# EAGLE library part SJA1000 (library andereBauteile)
BASIC-CAN 2.0a Controller (former 82C200) Stand-alone CAN controller
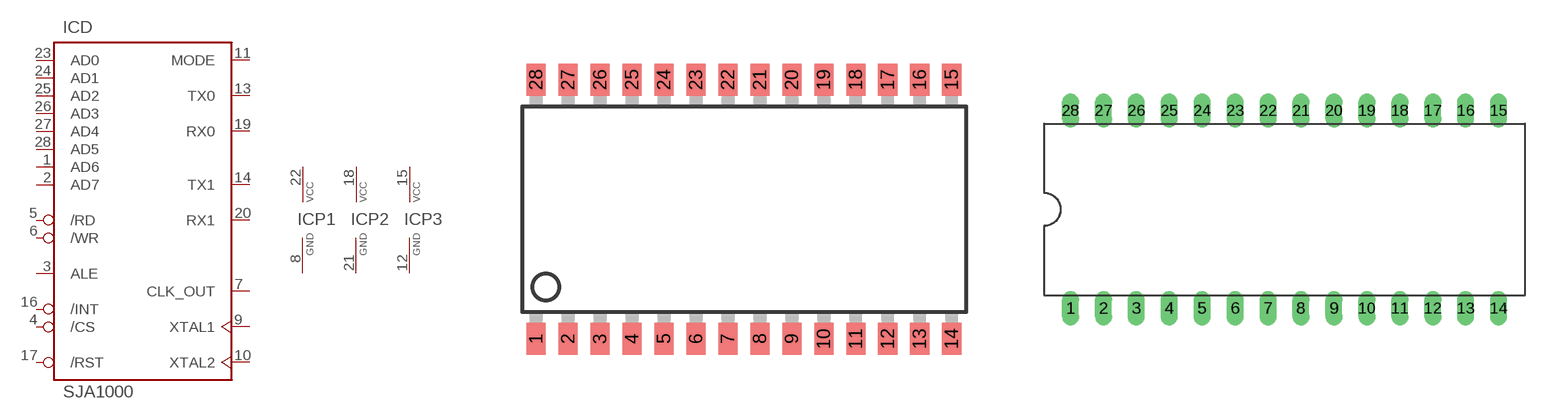
[diagram p21: symbol with the pads of SO28L; footprints SO28L, DIL28/6]

Designator prefix IC; gates D=SJA1000 P1=VCC-GND P2=VCC-GND P3=VCC-GND

## SJA1000T  [SO28L]
1  D:AD6  hiz
2  D:AD7  hiz
3  D:ALE
4  D:/CS  in
5  D:/RD  in
6  D:/WR  in
7  D:CLK_OUT  out
8  P1:GND  pwr
9  D:XTAL1  in
10  D:XTAL2  in
11  D:MODE  in
12  P3:GND  pwr
13  D:TX0  out
14  D:TX1  out
15  P3:VCC  pwr
16  D:/INT  out
17  D:/RST  in
18  P2:VCC  pwr
19  D:RX0  in
20  D:RX1  in
21  P2:GND  pwr
22  P1:VCC  pwr
23  D:AD0  hiz
24  D:AD1  hiz
25  D:AD2  hiz
26  D:AD3  hiz
27  D:AD4  hiz
28  D:AD5  hiz

## SJA1000  [DIL28/6]
Pads as for SO28L

## Footprint SO28L (pad centres in mm)
Small Outline large
smd 0.762 x 1.27: 1 -8.255,-5.207; 2 -6.985,-5.207; 3 -5.715,-5.207; 4 -4.445,-5.207; 5 -3.175,-5.207; 6 -1.905,-5.207; 7 -0.635,-5.207; 8 0.635,-5.207; 9 1.905,-5.207; 10 3.175,-5.207; 11 4.445,-5.207; 12 5.715,-5.207; 13 6.985,-5.207; 14 8.255,-5.207; 15 8.255,5.08; 16 6.985,5.08; 17 5.715,5.08; 18 4.445,5.08; 19 3.175,5.08; 20 1.905,5.08; 21 0.635,5.08; 22 -0.635,5.08; 23 -1.905,5.08; 24 -3.175,5.08; 25 -4.445,5.08; 26 -5.715,5.08; 27 -6.985,5.08; 28 -8.255,5.08

## Footprint DIL28/6 (pad centres in mm)
drill 0.813 long: 1 -16.51,-7.62; 2 -13.97,-7.62; 3 -11.43,-7.62; 4 -8.89,-7.62; 5 -6.35,-7.62; 6 -3.81,-7.62; 7 -1.27,-7.62; 8 1.27,-7.62; 9 3.81,-7.62; 10 6.35,-7.62; 11 8.89,-7.62; 12 11.43,-7.62; 13 13.97,-7.62; 14 16.51,-7.62; 15 16.51,7.62; 16 13.97,7.62; 17 11.43,7.62; 18 8.89,7.62; 19 6.35,7.62; 20 3.81,7.62; 21 1.27,7.62; 22 -1.27,7.62; 23 -3.81,7.62; 24 -6.35,7.62; 25 -8.89,7.62; 26 -11.43,7.62; 27 -13.97,7.62; 28 -16.51,7.62